# Altium schematic symbol library Schlib1.SchLib: 2 symbols
Pins are listed as number, name and electrical type; pins without a type are passive.

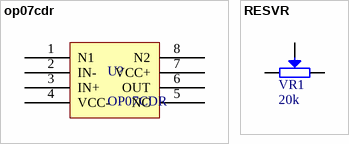
[diagram p0: symbols op07cdr to RESVR]

## op07cdr
designator U?, comment OP07CDR
footprint SOP8
pins: 1 N1, 2 IN-, 3 IN+, 4 VCC-, 5 NC, 6 OUT, 7 VCC+, 8 N2

## RESVR
designator VR1, comment 20k
footprint 3296W; pin to pad 2>3
footprint 3362P
footprint 3362S
footprint 微调卧式蓝白电位器
pins: 1, 2, 3